# Altium schematic symbol library Schlib1.SchLib: 12 symbols
Pins are listed as number, name and electrical type; pins without a type are passive.

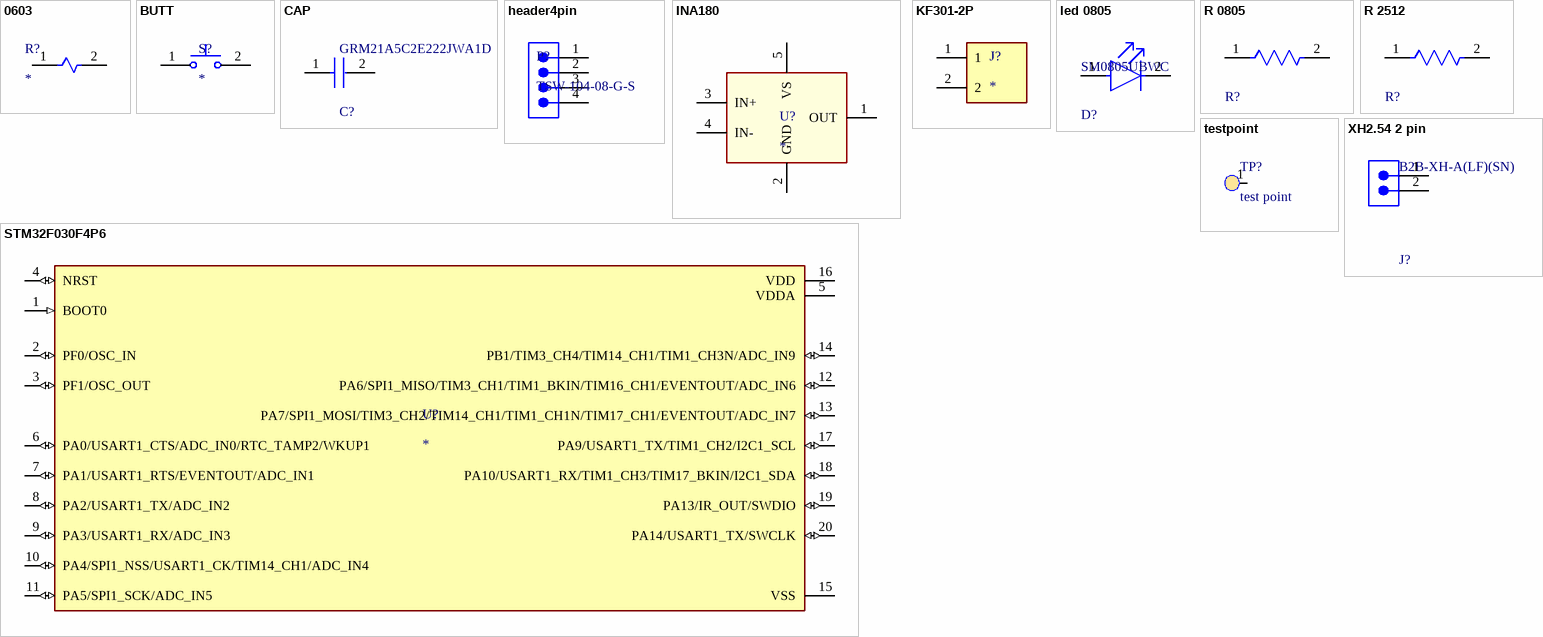
[diagram p0: symbols 0603 to XH2.54 2 pin]

## 0603
designator R?
footprint 0603-IPC_C
pins: 1, 2

## BUTT
designator S?
Tactile Switches MINI PUSH BUTTON SWITCH 2-PIN QTY. 4; MF: Gravitech; MP: BUTT-2; SnapEDA_Link: https://www.snapeda.com/parts/BUTT-2/Gravitech/view-part/?ref=snap; Package: None; Value: *; Check_prices: https://www.snapeda.com/parts/BUTT-2/Gravitech/view-part/?ref=eda
footprint SW_BUTTON
pins: 1, 2

## CAP
designator C?, comment GRM21A5C2E222JWA1D
Chip Multilayer Ceramic Capacitors for General Purpose, 0805, 2200pF, C0G, 30ppm/°C, 5%, 250V; Capacitance: 2.2nF; Width: 1.25mm; Dielectric: C0G; Voltage Rating (DC): 250V; Tolerance: 5%; Thickness: 1mm; Length: 2mm
footprint CAP 0805 IPC_A (FP-GRM21A-0_2-IPC_A)
pins: 1, 2

## header4pin
designator P?, comment TSW-104-08-G-S
0.025" SQ Post Header, Through-hole, Vertical, -55 to 125 degC, 2.54 mm Pitch, 4-Pin, Male, RoHS; Manufacturer: Samtec; Pitch: 2.54 mm; RoHS: True; ComponentLink3URL: http://www.samtec.com/documents/webfiles/cpdf/TSW-XXX-XX-XXX-X-XX-XXX-MKT.pdf; Mounting Technology: Through-hole; ComponentLink2URL: http://www.samtec.com/documents/webfiles/pdf/TSW_TH.PDF; ComponentLink1URL: http://www.samtec.com; ComponentLink3Description: Package Specification; PackageVersion: DM, 8/1988; ComponentLink2Description: Datasheet; PackageReference: TSW-104-08-X-S; PackageDescription: .025[0.64] SQ. Post Terminal Strip Assembly; PartNumber: TSW-104-08-G-S; ComponentLink1Description: Manufacturer URL; Temperature Range: -55 to 125 degC; DatasheetVersion: F-214; Orientation: Vertical
footprint header4pin (.025 SQ Post Terminal Strip Assembly, 1x4 Pins, Vertical, 2.54mm Pitch, Male)
footprint B4B-XH-A
pins: 1, 2, 3, 4

## INA180
designator U?
26V, 350kHz current sense amplifier; MF: Texas Instruments; MP: INA180B1IDBVT; SnapEDA_Link: https://www.snapeda.com/parts/INA180B1IDBVT/Texas+Instruments/view-part/?ref=snap; Package: SOT-23-5 Texas Instruments; Value: *; Check_prices: https://www.snapeda.com/parts/INA180B1IDBVT/Texas+Instruments/view-part/?ref=eda
footprint INA180
pins: 1 OUT, 2 GND (power), 3 IN+, 4 IN-, 5 VS (power)

## KF301-2P
designator J?
2 Pin Terminal Block 5mm Pitch; MF: Handson Technology; MP: KF301-2P; SnapEDA_Link: https://www.snapeda.com/parts/KF301-2P/Handson+Technology/view-part/?ref=snap; Package: None; Value: *; Check_prices: https://www.snapeda.com/parts/KF301-2P/Handson+Technology/view-part/?ref=eda
footprint KF301
pins: 1, 2

## led 0805
designator D?, comment SM0805UBWC
LED BLUE CLEAR 0805 SMD; Dominant Wavelength: 470nm; Forward Voltage: 3.3V; Forward Current: 20mA; Lens Color: Colorless; Lens Style: Rectangular; Luminous Intensity: 115mcd; Viewing Angle: 130°; Power Rating: 100mW; Lens Transparency: Clear; Height: 1.1mm; Mount: Surface Mount; Packaging: Tape and Reel; Package Quantity: 3000; Illumination Color: Blue; Width: 1.2mm; Min Operating Temperature: -30°C; Case Code (Imperial): 0805; Length: 2mm; Test Current: 20mA; Max Operating Temperature: 80°C; Case Code (Metric): 2012; Color: Blue; Wavelength: 470nm; Case/Package: 0805; Lead Free: Lead Free; Number of Pins: 2
footprint LED-0805- MFG
pins: 1 A, 2 C

## R 0805
designator R?
Resistance: 0mR; Radiation Hardening: No; Case Code (Imperial): 0805; Number of Terminations: 2; Lead Free: Lead Free; Max Operating Temperature: 155°C; Width: 0.049inch; Case Code (Metric): 2012; Height: 0.026inch; Mount: Surface Mount; Min Operating Temperature: -55°C; Packaging: Tape and Reel; Package Quantity: 1; Termination: Wraparound; Length: 0.079inch; RoHS Compliant: Yes; Case/Package: 0805
footprint R 0805 A (FP-HCJ0805-IPC_A)
pins: 1, 2

## R 2512
designator R?
Resistance: 0mR; Radiation Hardening: No; Case Code (Imperial): 0805; Number of Terminations: 2; Lead Free: Lead Free; Max Operating Temperature: 155°C; Width: 0.049inch; Case Code (Metric): 2012; Height: 0.026inch; Mount: Surface Mount; Min Operating Temperature: -55°C; Packaging: Tape and Reel; Package Quantity: 1; Termination: Wraparound; Length: 0.079inch; RoHS Compliant: Yes; Case/Package: 0805
footprint R 2512 A (FP-RMCF2512-IPC_A)
pins: 1, 2

## STM32F030F4P6
designator U?
ARMÂ® CortexÂ®-M0 STM32F0 Microcontroller IC 32-Bit Single-Core 48MHz 16KB (16K x 8) FLASH; MF: STMicroelectronics; MP: STM32F030F4P6; SnapEDA_Link: https://www.snapeda.com/parts/STM32F030F4P6/STMicroelectronics/view-part/?ref=snap; Package: TSSOP-20 STMicroelectronics; Value: *; Check_prices: https://www.snapeda.com/parts/STM32F030F4P6/STMicroelectronics/view-part/?ref=eda
footprint STM32F030 - 20pin
pins: 1 BOOT0 (in), 2 PF0/OSC_IN (io), 3 PF1/OSC_OUT (io), 4 NRST (io), 5 VDDA (power), 6 PA0/USART1_CTS/ADC_IN0/RTC_TAMP2/WKUP1 (io), 7 PA1/USART1_RTS/EVENTOUT/ADC_IN1 (io), 8 PA2/USART1_TX/ADC_IN2 (io), 9 PA3/USART1_RX/ADC_IN3 (io), 10 PA4/SPI1_NSS/USART1_CK/TIM14_CH1/ADC_IN4 (io), 11 PA5/SPI1_SCK/ADC_IN5 (io), 12 PA6/SPI1_MISO/TIM3_CH1/TIM1_BKIN/TIM16_CH1/EVENTOUT/ADC_IN6 (io), 13 PA7/SPI1_MOSI/TIM3_CH2/TIM14_CH1/TIM1_CH1N/TIM17_CH1/EVENTOUT/ADC_IN7 (io), 14 PB1/TIM3_CH4/TIM14_CH1/TIM1_CH3N/ADC_IN9 (io), 15 VSS (power), 16 VDD (power), 17 PA9/USART1_TX/TIM1_CH2/I2C1_SCL (io), 18 PA10/USART1_RX/TIM1_CH3/TIM17_BKIN/I2C1_SDA (io), 19 PA13/IR_OUT/SWDIO (io), 20 PA14/USART1_TX/SWCLK (io)

## testpoint
designator TP?, comment test point
Value: test point
footprint testpoint
pins: 1 testpoint

## XH2.54 2 pin
designator J?, comment B2B-XH-A(LF)(SN)
CONN HEADER VERT 2POS 2.5MM; Current Rating: 3A; Voltage Rating: 250V; Number of Contacts: 2; Contact Resistance: 20mR; Wire/Cable Gauge: 22AWG; Insulation Resistance: 1GR; Connector Type: Male Pin; Packaging: Bulk; Contact Material: Brass; Lead Free: Lead Free; Orientation: Straight; Contact Plating: Tin; Max Current Rating: 3A; Termination: Solder; Fastening Type: Detent; Depth: 5.75mm; Housing Material: Polyamide; REACH SVHC: No SVHC; Series: XH; Voltage Rating (AC): 250V; Number of Positions: 2; Color: Natural; Contact Type: Male Pin; Max Voltage Rating (DC): 250V; Pitch: 2.5mm; Lead Pitch: 2.5mm; Mount: Through Hole; Max Operating Temperature: 85°C; Length: 7.4mm; Max Voltage Rating (AC): 250V; Min Operating Temperature: -25°C; Number of Rows: 1; Housing Color: White
footprint B2B-XH-A_LF_SN-MFG
pins: 1, 2